# EAGLE library part PCA9685PW,118 (library PCA9685PW_118)
16-channel, 12-bit PWM Fm+ I2C-bus LED controller
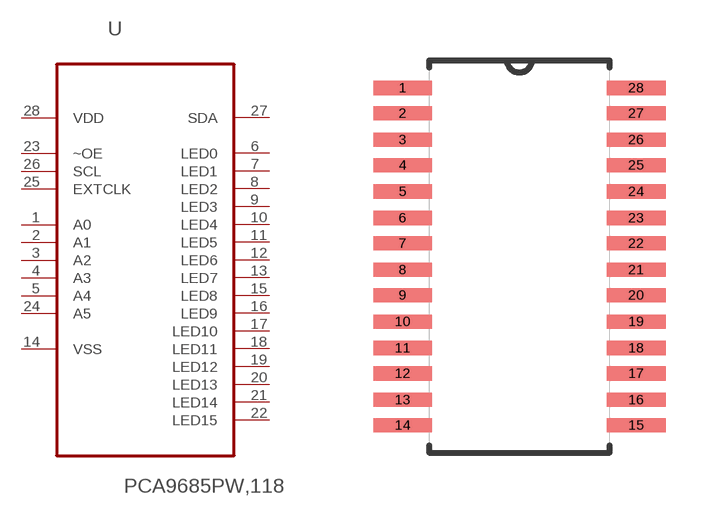
[diagram p0: symbol with the pads of SOP65P640X110-28N; footprint SOP65P640X110-28N]

Designator prefix U

## PCA9685PW,118 (Description: LED Driver IC 16 Output Linear PWM Dimming 25mA 28-TSSOP; Digi-Key_Part_Number: 568-11925-1-ND; Digi-Key_Purchase_URL: https://www.digikey.nl/product-detail/en/nxp-usa-inc/PCA9685PW,118/568-11925-1-ND/5221902?utm_source=snapeda&utm_medium=aggregator&utm_campaign=symbol; MF: NXP USA; MP: PCA9685PW,118; Package: TSSOP-28 NXP Semiconductors)  [SOP65P640X110-28N]
1  A0  in
2  A1  in
3  A2  in
4  A3  in
5  A4  in
6  LED0  out
7  LED1  out
8  LED2  out
9  LED3  out
10  LED4  out
11  LED5  out
12  LED6  out
13  LED7  out
14  VSS  pas
15  LED8  out
16  LED9  out
17  LED10  out
18  LED11  out
19  LED12  out
20  LED13  out
21  LED14  out
22  LED15  out
23  ~OE  in
24  A5  in
25  EXTCLK  in
26  SCL  in
27  SDA
28  VDD  pwr

## Footprint SOP65P640X110-28N (pad centres in mm)
smd 1.473 x 0.356: 1 -2.921,4.216; 2 -2.921,3.581; 3 -2.921,2.921; 4 -2.921,2.286; 5 -2.921,1.626; 6 -2.921,0.965; 7 -2.921,0.33; 8 -2.921,-0.33; 9 -2.921,-0.965; 10 -2.921,-1.626; 11 -2.921,-2.286; 12 -2.921,-2.921; 13 -2.921,-3.581; 14 -2.921,-4.216; 15 2.921,-4.216; 16 2.921,-3.581; 17 2.921,-2.921; 18 2.921,-2.286; 19 2.921,-1.626; 20 2.921,-0.965; 21 2.921,-0.33; 22 2.921,0.33; 23 2.921,0.965; 24 2.921,1.626; 25 2.921,2.286; 26 2.921,2.921; 27 2.921,3.581; 28 2.921,4.216